# Altium footprint library Resistors.PcbLib: 8 footprints
Each footprint in its own frame and in the unit in brackets; x right, y up, seen from the top. Pads: shape width x height; smd on the part's side, far side on the other; paste and mask are expansions set on the pad; w line width, h text height; cw(c..) or ccw(c..) is an arc to the next point about the centre after c.
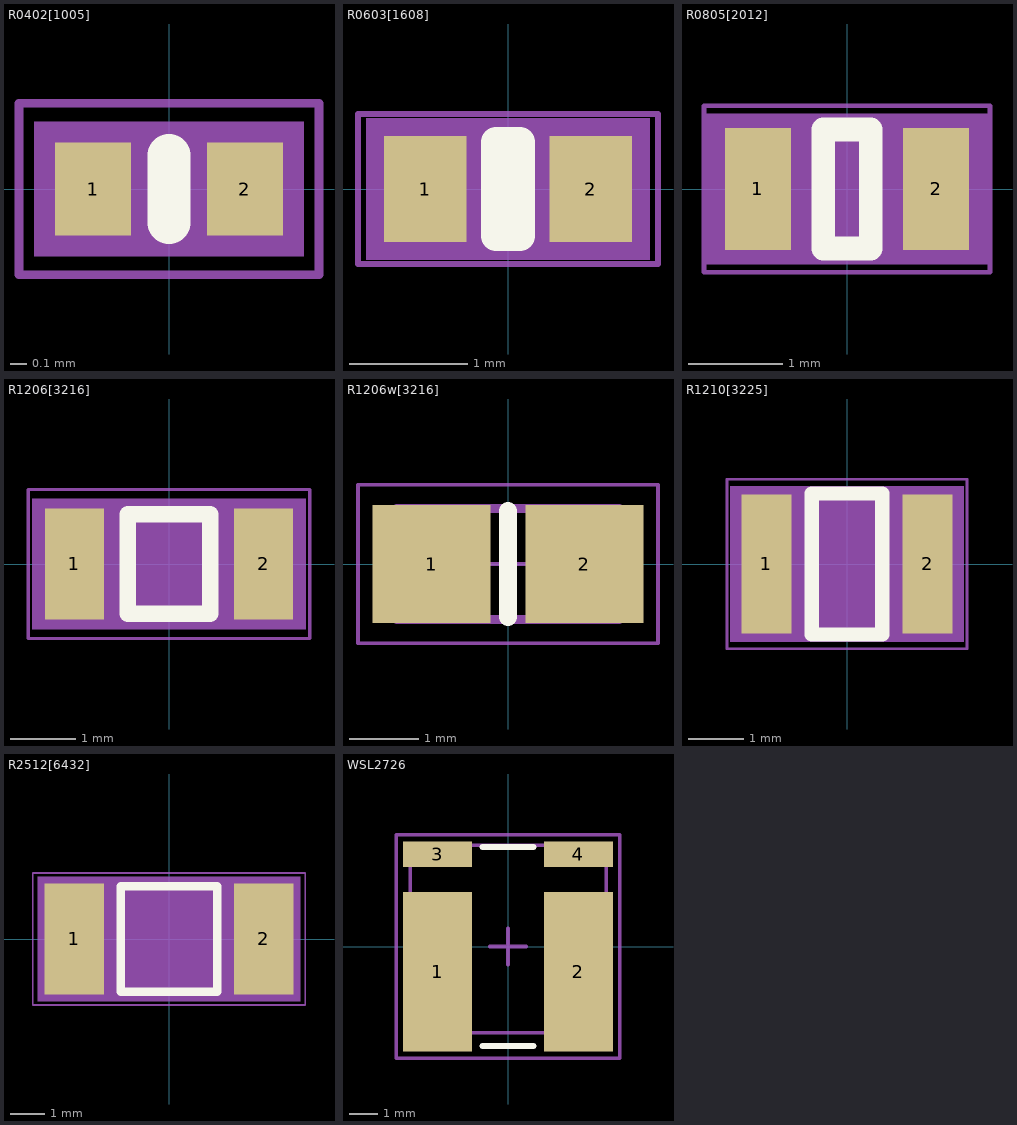
[diagram p0: the footprints below, top view; thin cyan lines are the x and y axes]

## R0402[1005] [mm] "Chip Resistor, Body 1.0x0.5mm"
height 0.35
pads (2):
  rect 0.45x0.55 smd: 1(-0.45,0) 2(0.45,0)
Top Overlay:
  lines w0.254: 0,-0.2 0,0.2
Mechanical 2:
  lines w0.051: -0.254,0 0.254,0 ; 0,-0.25 0,0.25 ; -0.889,-0.508 0.889,-0.508 0.889,0.508 -0.889,0.508 -0.889,-0.508
Mechanical 3:
  lines w0.127: -0.5,-0.25 0.5,-0.25 0.5,0.25 -0.5,0.25 -0.5,-0.25
Mechanical 5:
  cavity: -0.8,0.4 0.8,0.4 0.8,-0.4 -0.8,-0.4
3D body "User Library-RESC1005X04N.STEP": height 0.35, standoff 0, extent -0.5,-0.25 0.5,0.25

## R0603[1608] [mm] "Chip Resistor, Body 1.55x0.85mm"
height 0.45
pads (2):
  rect 0.7x0.9 smd: 1(-0.7,0) 2(0.7,0)
Top Overlay:
  lines w0.254: -0.1,-0.4 0.1,-0.4 0.1,0.4 -0.1,0.4 -0.1,-0.4
Mechanical 2:
  lines w0.051: -0.381,0 0.381,0 ; 0,-0.381 0,0.381 ; -1.27,-0.635 1.27,-0.635 1.27,0.635 -1.27,0.635 -1.27,-0.635
Mechanical 3:
  lines w0.127: -0.775,-0.425 -0.775,0.425 0.775,0.425 0.775,-0.425 -0.775,-0.425
Mechanical 5:
  cavity: -1.2,0.6 1.2,0.6 1.2,-0.6 -1.2,-0.6
  region: -1.1,-0.6
3D body "User Library-RESC1608X05N.step": height 0.45, standoff 0, extent -0.775,-0.425 0.775,0.425

## R0805[2012] [mm] "Chip Resistor, Body 2.0x1.25mm"
height 0.45
pads (2):
  rect 0.7x1.3 smd: 1(-0.95,0) 2(0.95,0)
Top Overlay:
  lines w0.254: -0.254,-0.635 0.254,-0.635 0.254,0.635 -0.254,0.635 -0.254,-0.635
Mechanical 1:
  cavity: -1.5,0.8 1.5,0.8 1.5,-0.8 -1.5,-0.8
Mechanical 2:
  lines w0.051: -0.508,0 0.508,0 ; 0,-0.508 0,0.508 ; -1.524,-0.889 -1.524,0.889 1.524,0.889 1.524,-0.889 -1.524,-0.889
Mechanical 3:
  lines w0.127: -1,-0.625 1,-0.625 1,0.625 -1,0.625 -1,-0.625
3D body "User Library-RESC2012X05N.step": height 0.45, standoff 0, extent -1,-0.625 1,0.625

## R1206[3216] [mm] "Chip Resistor, Body 3.2x1.6mm"
height 0.55
pads (2):
  rect 0.9x1.7 smd: 1(-1.45,0) 2(1.45,0)
Top Overlay:
  lines w0.254: -0.635,-0.762 -0.635,0.762 0.635,0.762 0.635,-0.762 -0.635,-0.762
Mechanical 1:
  cavity: -2.1,1 2.1,1 2.1,-1 -2.1,-1
Mechanical 2:
  lines w0.051: -0.635,0 0.635,0 ; 0,-0.635 0,0.635 ; -2.159,-1.143 -2.159,1.143 2.159,1.143 2.159,-1.143 -2.159,-1.143
Mechanical 3:
  lines w0.127: -1.6,-0.8 1.6,-0.8 1.6,0.8 -1.6,0.8 -1.6,-0.8
Mechanical 5:
  region: -2.1,-1
3D body "User Library-RESC3216X06N.step": height 0.55, standoff 0, extent -1.6,-0.8 1.6,0.8

## R1206w[3216] [mm] "Chip Resistor, Body 3.2x1.6mm"
height 0.55
pads (2):
  rect 1.7x1.7 smd: 1(-1.1,0) 2(1.1,0)
Top Overlay:
  lines w0.254: 0,-0.762 0,0.762 0,-0.762
Mechanical 2:
  lines w0.051: -0.635,0 0.635,0 ; 0,-0.635 0,0.635 ; -2.159,-1.143 2.159,-1.143 2.159,1.143 -2.159,1.143 -2.159,-1.143
Mechanical 3:
  lines w0.127: -1.6,-0.8 -1.6,0.8 1.6,0.8 1.6,-0.8 -1.6,-0.8
3D body "User Library-RESC3216X06N.step": height 0.55, standoff 0, extent -1.6,-0.8 1.6,0.8

## R1210[3225] [mm] "Chip Resistor, Body 3.2x2.5mm"
height 0.55
pads (2):
  rect 0.9x2.5 smd: 1(-1.45,0) 2(1.45,0)
Top Overlay:
  lines w0.254: -0.635,-1.27 0.635,-1.27 0.635,1.27 -0.635,1.27 -0.635,-1.27
Mechanical 1:
  cavity: -2.1,1.4 2.1,1.4 2.1,-1.4 -2.1,-1.4
Mechanical 2:
  lines w0.051: -0.635,0 0.635,0 ; 0,-0.635 0,0.635 ; -2.159,-1.524 -2.159,1.524 2.159,1.524 2.159,-1.524 -2.159,-1.524
Mechanical 3:
  lines w0.127: -1.6,-1.25 -1.6,1.25 1.6,1.25 1.6,-1.25 -1.6,-1.25
3D body "User Library-RESC3225X06N.step": height 0.55, standoff 0, extent -1.6,-1.25 1.6,1.25

## R2512[6432] [mm] "Chip Resistor, Body 6.35x3.18mm"
height 0.6
pads (2):
  rect 1.725x3.2 smd: 1(-2.737,0) 2(2.737,0)
Top Overlay:
  lines w0.254: -1.397,-1.524 -1.397,1.524 1.397,1.524 1.397,-1.524 -1.397,-1.524
Mechanical 1:
  cavity: -3.8,1.8 3.8,1.8 3.8,-1.8 -3.8,-1.8
Mechanical 2:
  lines w0.051: -0.635,0 0.635,0 ; 0,-0.635 0,0.635 ; -3.937,-1.905 -3.937,1.905 3.937,1.905 3.937,-1.905 -3.937,-1.905
Mechanical 3:
  lines w0.127: -3.175,-1.6 3.175,-1.6 3.175,1.6 -3.175,1.6 -3.175,-1.6
3D body "User Library-RESC6432X06.step": height 0.6, standoff 0, extent -3.2,-1.6 3.2,1.6

## WSL2726 [mm]
pads (4):
  rect 2.44x5.6 smd: 1(-2.48,-0.89) 2(2.48,-0.89)
  rect 2.44x0.89 smd: 3(-2.48,3.245) 4(2.48,3.245)
Top Overlay:
  lines w0.2: -0.9,-3.5 0.9,-3.5 ; -0.9,3.5 0.9,3.5
Mechanical 2:
  lines w0.127: -0.635,0 0.635,0 ; 0,-0.635 0,0.635 ; -3.937,-3.937 3.937,-3.937 3.937,3.937 -3.937,3.937 -3.937,-3.937
Mechanical 3:
  lines w0.127: -3.447,-3.035 3.453,-3.035 3.453,3.565 -3.447,3.565 -3.447,-3.035
3D body "User Library-wsl2726.step": height 3.58, standoff 0, extent -3.45,-3.1 3.45,3.5